# Altium schematic symbol library LM393N.SchLib: 1 symbol
Pins are listed as number, name and electrical type; pins without a type are passive.

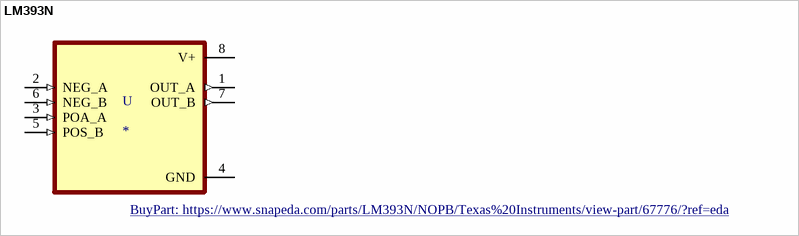
[diagram p0: symbol LM393N]

## LM393N
designator U
Low Power Low Offset Voltage Dual Comparator 8-PDIP 0 to 70; MF: Texas Instruments; MP: LM393N/NOPB; Digi-Key_Part_Number: LM393NNS/NOPB-ND; Mouser-Purchase-URL: https://snapeda.com/shop?store=Mouser&id=67776; SnapEDA_Link: https://www.snapeda.com/parts/LM393N/NOPB/Texas%20Instruments/view-part/67776/?ref=snap; Texas_Instruments-Purchase-URL: https://snapeda.com/shop?store=Texas+Instruments&id=67776; Value: *; Package: PDIP-8 Texas Instruments; DigiKey-Purchase-URL: https://snapeda.com/shop?store=DigiKey&id=67776; BuyPart: https://www.snapeda.com/parts/LM393N/NOPB/Texas%20Instruments/view-part/67776/?ref=eda
footprint DIP794W45P254L959H508Q8
pins: 1 OUT_A (out), 2 NEG_A (in), 3 POA_A (in), 4 GND (power), 5 POS_B (in), 6 NEG_B (in), 7 OUT_B (out), 8 V+ (power)